# Altium footprint library UVS-PcbLib.PcbLib: 20 footprints (part 1 of 2)
Each footprint in its own frame and in the unit in brackets; x right, y up, seen from the top. Pads: shape width x height; smd on the part's side, far side on the other; paste and mask are expansions set on the pad; w line width, h text height; cw(c..) or ccw(c..) is an arc to the next point about the centre after c.
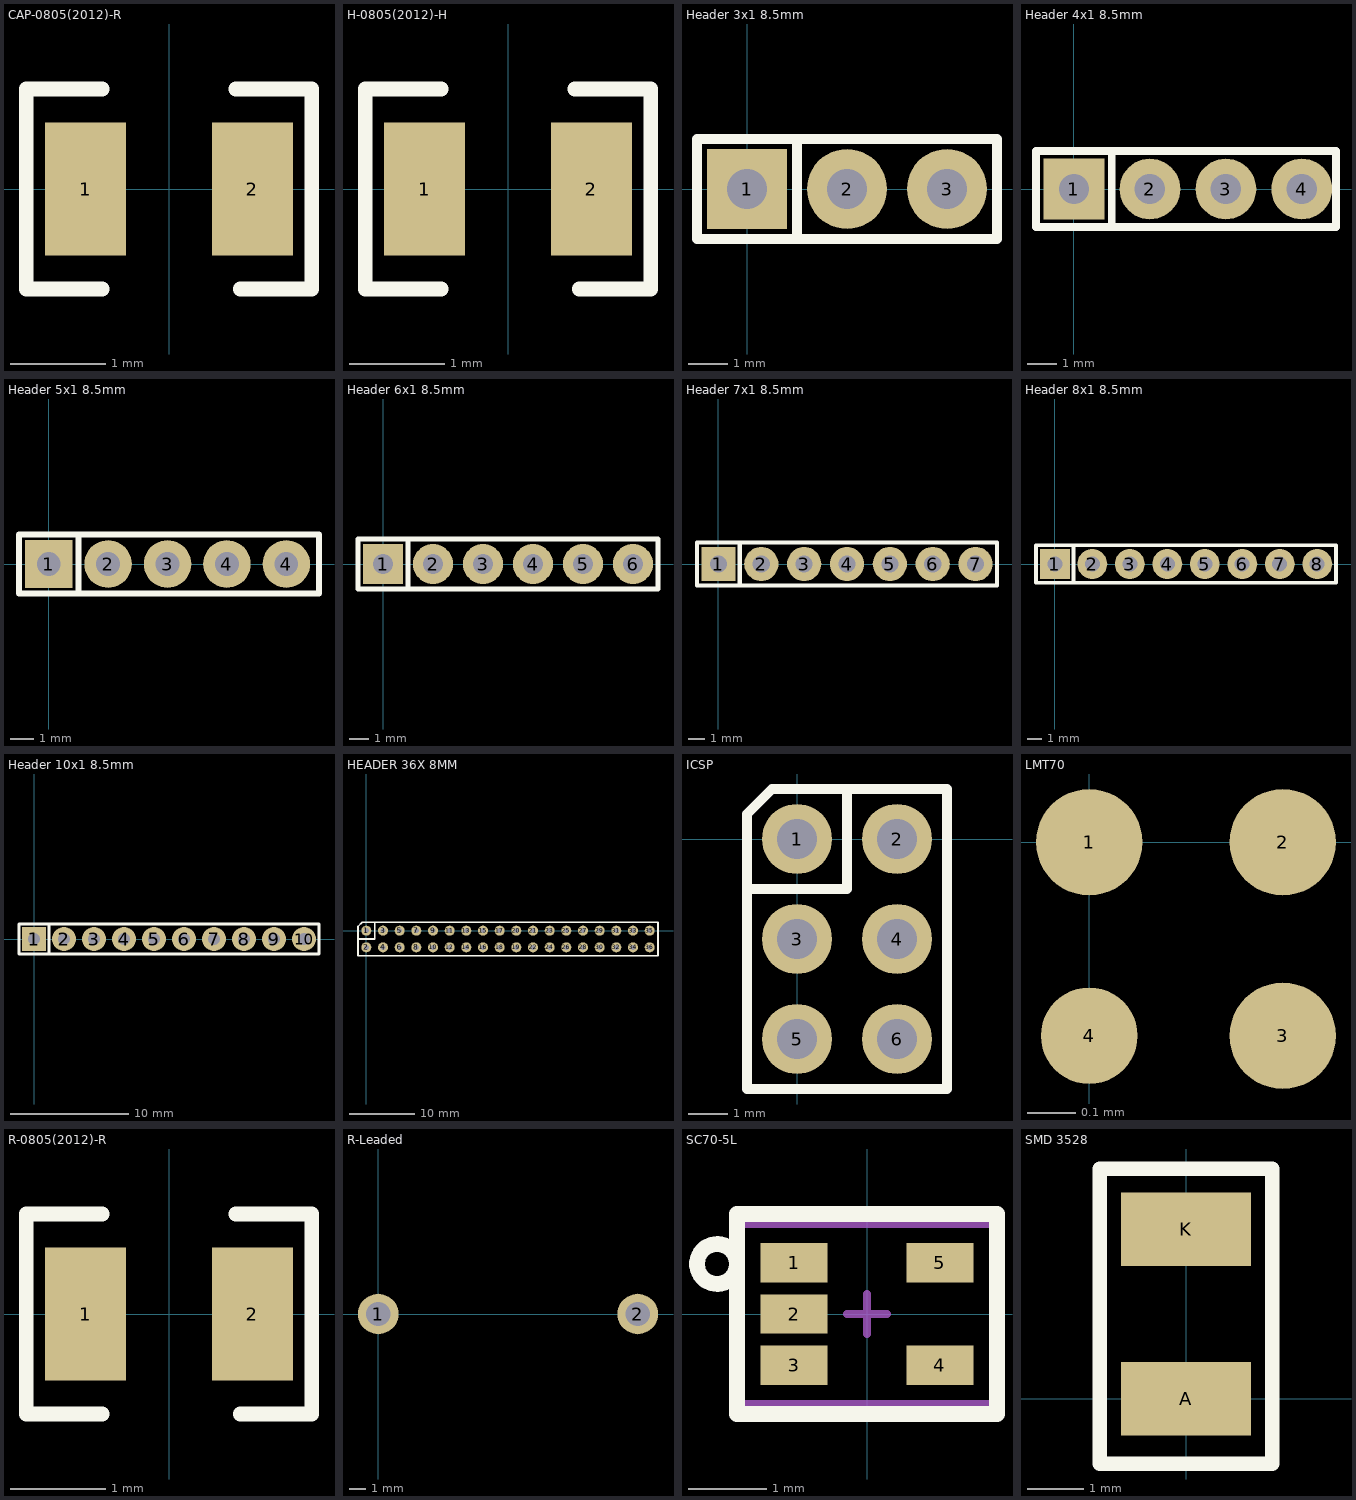
[diagram p0: the footprints below, top view; thin cyan lines are the x and y axes]

## CAP-0805(2012)-R [mm] "Capacitor 0805(2012) Reflow"
pads (2):
  rect 0.85x1.4 smd: 1(-0.875,0) 2(0.875,0)
Top Overlay:
  lines w0.152: -0.7,-1.05 -1.5,-1.05 -1.5,1.05 -0.7,1.05 ; 0.7,1.05 1.5,1.05 1.5,-1.05 0.75,-1.05
3D body "CAP0805.stp": height 0.78, standoff 0, extent -1,-0.625 1,0.625

## H-0805(2012)-H [mm] "Inductor 0805(2012) Reflow"
pads (2):
  rect 0.85x1.4 smd: 1(-0.875,0) 2(0.875,0)
Top Overlay:
  lines w0.152: -0.7,-1.05 -1.5,-1.05 -1.5,1.05 -0.7,1.05 ; 0.7,1.05 1.5,1.05 1.5,-1.05 0.75,-1.05
3D body "RES0805.stp": height 0.5, standoff 0, extent -1,-0.625 1,0.625

## Header 3x1 8.5mm [mil] "Stackable 3 pin header"
pads (3):
  rect 80x80 hole 40: 1(0,0)
  round 80 hole 40: 2(100,0) 3(200,0)
Top Overlay:
  lines w10: 50,-50 250,-50 250,50 50,50 ; 50,-50 50,50 ; 50,-50 -50,-50 -50,0 -50,50 50,50
3D body "Pin Header 3 x1 TH 2.54mm Pitch.stp": height 350, standoff -100, extent -49.99,-50 250.01,50

## Header 4x1 8.5mm [mil] "Stackable 4 pin header"
pads (4):
  rect 80x80 hole 40: 1(0,0)
  round 80 hole 40: 2(100,0) 3(200,0) 4(300,0)
Top Overlay:
  lines w10: 50,-50 345,-50 345,50 50,50 ; 50,-50 50,50 ; 50,-50 -50,-50 -50,0 -50,50 50,50
3D body "Pin Header 4 x 1 TH 2.54mm Pitch.stp": height 200, standoff -250, extent -50,-50 350,50

## Header 5x1 8.5mm [mil] "Stackable 5 pin header"
pads (5):
  rect 80x80 hole 40: 1(0,0)
  round 80 hole 40: 2(100,0) 3(200,0) 4(300,0) 4(400,0)
Top Overlay:
  lines w10: 50,-50 455,-50 455,50 50,50 ; 50,-50 50,50 ; 50,-50 -50,-50 -50,0 -50,50 50,50
3D body "Pin Header 4 x 1 TH 2.54mm Pitch.stp": height 200, standoff -250, extent -50,-50 350,50

## Header 6x1 8.5mm [mil] "Stackable 6 pin header"
pads (6):
  rect 80x80 hole 40: 1(0,0)
  round 80 hole 40: 2(100,0) 3(200,0) 4(300,0) 5(400,0) 6(500,0)
Top Overlay:
  lines w10: 50,-50 550,-50 550,50 50,50 ; 50,-50 50,50 ; 50,-50 -50,-50 -50,0 -50,50 50,50
3D body "SIL_Socket06.stp": height 334.65, standoff -584.65, extent -49.99,-49.99 550.01,50.01

## Header 7x1 8.5mm [mil] "Stackable 7 pin header"
pads (7):
  rect 80x80 hole 40: 1(0,0)
  round 80 hole 40: 2(100,0) 3(200,0) 4(300,0) 5(400,0) 6(500,0) 7(600,0)
Top Overlay:
  lines w10: 50,-50 50,50 ; -50,-50 650,-50 650,50 -50,50 -50,-50
3D body "Pin Header 7 x 1 TH 2.54mm Pitch.stp": height 200, standoff -250, extent -50,-50 650,50

## Header 8x1 8.5mm [mil] "Stackable 8 pin header"
pads (8):
  rect 80x80 hole 40: 1(0,0)
  round 80 hole 40: 2(100,0) 3(200,0) 4(300,0) 5(400,0) 6(500,0) 7(600,0) 8(700,0)
Top Overlay:
  lines w10: 50,-50 50,50 ; -50,-50 -50,50 750,50 750,-50 -50,-50
3D body "SIL_Socket08_.stp": height 334.65, standoff -584.65, extent -50,-49.99 750,50.01

## Header 10x1 8.5mm [mil] "Stackable 10 pin header"
pads (10):
  rect 80x80 hole 40: 1(0,0)
  round 80 hole 40: 2(100,0) 3(200,0) 4(300,0) 5(400,0) 6(500,0) 7(600,0) 8(700,0) 9(800,0) 10(900,0)
Top Overlay:
  lines w10: 50,-50 -50,-50 -50,50 50,50 ; 50,-50 950,-50 950,50 50,50 ; 50,-50 50,50
3D body "SIL_Socket10.stp": height 334.65, standoff -584.65, extent -50,-50 950,50

## HEADER 36X 8MM [mil] "Stackable 10 pin header"
pads (36):
  round 60 hole 30: 1(0,0) 2(0,-100) 3(100,0) 4(100,-100) 5(200,0) 6(200,-100) 7(300,0) 8(300,-100) 9(400,0) 10(400,-100) 11(500,0) 12(500,-100) 13(600,0) 14(600,-100) 15(700,0) 16(700,-100) 17(800,0) 18(800,-100) 19(900,-100) 20(900,0) 21(1000,0) 22(1000,-100) 23(1100,0) 24(1100,-100) 25(1200,0) 26(1200,-100) 27(1300,0) 28(1300,-100) 29(1400,0) 30(1400,-100) 31(1500,0) 32(1500,-100) 33(1600,0) 34(1600,-100) 35(1700,0) 36(1700,-100)
Top Overlay:
  lines w10: -50,-50 50,-50 50,50 ; -50,-150 1750,-150 1750,50 -25,50 -50,25 -50,-150
3D body "SIL_Socket36.stp": height 334.65, standoff -584.65, extent -50,-150 1750,50

## ICSP [mil]
pads (6):
  round 70 hole 40: 1(0,0) 2(100,0) 3(0,-100) 4(100,-100) 5(0,-200) 6(100,-200)
Top Overlay:
  lines w10: -50,-50 50,-50 50,50 ; -50,-250 -50,25 -25,50 150,50 150,-250 -50,-250
3D body "ICSP.stp": height 484.65, standoff -105.84, extent -49.99,-249.99 150.01,50.01

## LMT70 [mm] "TI ANALOG TEMPERATURE SENSOR"
pads (4):
  round 0.22 smd: 1(0,0) 2(0.4,0) 3(0.4,-0.4)
  round 0.2 smd: 4(0,-0.4)

## R-0805(2012)-R [mm] "Resistor 0805(2012) Reflow"
pads (2):
  rect 0.85x1.4 smd: 1(-0.875,0) 2(0.875,0)
Top Overlay:
  lines w0.152: -0.7,-1.05 -1.5,-1.05 -1.5,1.05 -0.7,1.05 ; 0.7,1.05 1.5,1.05 1.5,-1.05 0.75,-1.05
3D body "RES0805.stp": height 0.5, standoff 0, extent -1,-0.625 1,0.625

## R-Leaded [mm] "250 mW Leaded Resistor"
pads (2):
  round 2.5 hole 1.5: 1(0,0) 2(16,0)

## SC70-5L [mm] "SC70, 5-Leads, Body 2.20x2.7mm, Pitch 0.65mm"
height 1.16
pads (5):
  rect 0.85x0.5 smd: 1(-0.925,0.65) 2(-0.925,0) 3(-0.925,-0.65) 4(0.925,-0.65) 5(0.925,0.65)
Top Overlay:
  circle w0.2: c-1.905,0.635 r0.254
  lines w0.2: -1.651,-1.27 -1.651,1.27 1.651,1.27 1.651,-1.27 -1.651,-1.27
Mechanical 15:
  lines w0.1: -1.651,-1.143 -1.651,1.143 ; -0.254,0 0.254,0 ; 0,-0.254 0,0.254 ; 1.651,-1.143 1.651,1.143
  lines w0.102: -1.651,-1.143 1.651,-1.143 ; -1.651,1.143 1.651,1.143
3D body "WE-TVS_Standard_SC70-5L_STD.stp": height 1, standoff 0, extent -1.1,-1 1.1,1

## SMD 3528 [mm]
pads (2):
  rect 2.3x1.3 smd: A(0,0) K(0,3)
Top Overlay:
  lines w0.254: -1.524,-1.143 1.524,-1.143 1.524,4.064 -1.524,4.064 -1.524,-1.143
3D body "3528 SMD LED.stp": height 0.95, standoff -0.05, extent -1.4,-0.099 1.4,3.401